# Altium integrated library NXP Semiconductors Automotive MOSFETs.IntLib: 540 symbols (part 13 of 16)
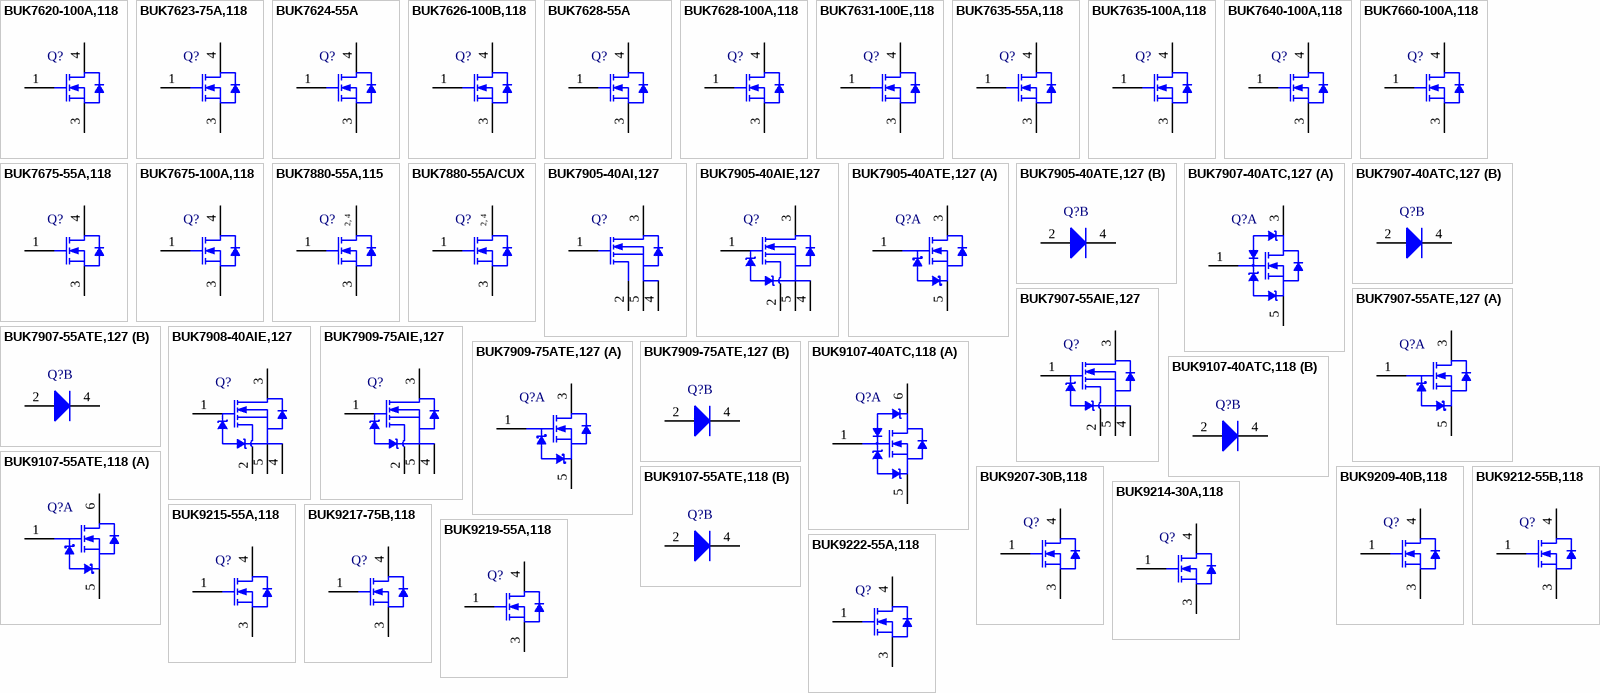
[diagram p26: symbols BUK7620-100A,118 to BUK9222-55A,118]

## BUK9215-55A,118
designator Q?
N-Channel TrenchMOS Logic Level FET, 55 V, 3-Pin SOT428, Tape and Reel; Manufacturer: NXP Semiconductors; PartNumber: BUK9215-55A,118; Automotive Qualified: Y; Channel Type: N; IDM [max] (A): 248; Packing: Tape & Reel; Qr [typ] (nC): 102; VDS [max] (V): 55; VGSth [typ] (V): 1.5; PackageVersion: 14-06-10, 06/2014; PackageReference: SOT428; PackageDescription: 3-Pin Plastic Single-ended Surface Mounted Package, Body 6.1 x 6.6 mm, Pitch 2.285 mm; Supplier 1: Digi-Key; Supplier Part Number 1: 568-9664-2-ND; Supplier 2: Digi-Key; Supplier Part Number 2: 568-9664-1-ND; Supplier 3: Digi-Key; Supplier Part Number 3: 568-9664-6-ND; Supplier 4: Mouser; Supplier Part Number 4: 771-BUK9215-55A118; Mounting Technology: Surface Mount; Code_JEITA: SC-63; Code_JEDEC: TO-252; ComponentLink1Description: Manufacturer URL; ComponentLink1URL: http://www.nxp.com/; ComponentLink2Description: Datasheet; ComponentLink2URL: http://www.nxp.com/documents/data_sheet/BUK9215-55A.pdf; ComponentLink3Description: Package Specification; ComponentLink3URL: http://www.nxp.com/documents/outline_drawing/sot428_po.pdf
footprint NXP-SOT428_N (DPAK, 3-Leads, Body 6.75x6.22mm, Pitch 2.29mm, IPC Medium Density)
footprint NXP-SOT428_L (DPAK, 3-Leads, Body 6.75x6.22mm, Pitch 2.29mm, IPC High Density)
footprint NXP-SOT428_M (DPAK, 3-Leads, Body 6.75x6.22mm, Pitch 2.29mm, IPC Low Density)
pins: 1 G "gate", 3 S "source", 4 D "mounting base; connected to drain"

## BUK9217-75B,118
designator Q?
N-Channel TrenchMOS Logic Level FET, 75 V, 64 A, 3-Pin SOT428, Tape and Reel; Manufacturer: NXP Semiconductors; PartNumber: BUK9217-75B,118; Automotive Qualified: Y; Channel Type: N; ID [max] (A): 64; IDM [max] (A): 256; Packing: Tape & Reel; Qr [typ] (nC): 138; VDS [max] (V): 75; VGSth [typ] (V): 1.5; DatasheetVersion: Rev. 02; PackageVersion: 14-06-10, 06/2014; PackageReference: SOT428; PackageDescription: 3-Pin Plastic Single-ended Surface Mounted Package, Body 6.1 x 6.6 mm, Pitch 2.285 mm; Supplier 1: Digi-Key; Supplier Part Number 1: 568-5857-2-ND; Supplier 2: Digi-Key; Supplier Part Number 2: 568-5857-1-ND; Supplier 3: Digi-Key; Supplier Part Number 3: 568-5857-6-ND; Supplier 4: Mouser; Supplier Part Number 4: 771-BUK9217-75B118; Mounting Technology: Surface Mount; Code_JEITA: SC-63; Code_JEDEC: TO-252; ComponentLink1Description: Manufacturer URL; ComponentLink1URL: http://www.nxp.com/; ComponentLink2Description: Datasheet; ComponentLink2URL: http://www.nxp.com/documents/data_sheet/BUK9217-75B.pdf; ComponentLink3Description: Package Specification; ComponentLink3URL: http://www.nxp.com/documents/outline_drawing/sot428_po.pdf
footprint NXP-SOT428_N (DPAK, 3-Leads, Body 6.75x6.22mm, Pitch 2.29mm, IPC Medium Density)
footprint NXP-SOT428_L (DPAK, 3-Leads, Body 6.75x6.22mm, Pitch 2.29mm, IPC High Density)
footprint NXP-SOT428_M (DPAK, 3-Leads, Body 6.75x6.22mm, Pitch 2.29mm, IPC Low Density)
pins: 1 G "gate", 3 S "source", 4 D "mounting base; connected to drain"

## BUK9219-55A,118
designator Q?
N-Channel TrenchMOS Logic Level FET, 55 V, 55 A, 3-Pin SOT428, Tape and Reel; Manufacturer: NXP Semiconductors; PartNumber: BUK9219-55A,118; Automotive Qualified: Y; Channel Type: N; ID [max] (A): 55; IDM [max] (A): 219; Packing: Tape & Reel; Qr [typ] (nC): 102; VGSth [typ] (V): 1.5; DatasheetVersion: Rev. 02; PackageVersion: 14-06-10, 06/2014; PackageReference: SOT428; PackageDescription: 3-Pin Plastic Single-ended Surface Mounted Package, Body 6.1 x 6.6 mm, Pitch 2.285 mm; Supplier 1: Digi-Key; Supplier Part Number 1: 568-9665-2-ND; Supplier 2: Digi-Key; Supplier Part Number 2: 568-9665-1-ND; Supplier 3: Digi-Key; Supplier Part Number 3: 568-9665-6-ND; Supplier 4: Mouser; Supplier Part Number 4: 771-BUK9219-55A118; VDS [max] (V): 55; Mounting Technology: Surface Mount; Code_JEITA: SC-63; Code_JEDEC: TO-252; ComponentLink1Description: Manufacturer URL; ComponentLink1URL: http://www.nxp.com/; ComponentLink2Description: Datasheet; ComponentLink2URL: http://www.nxp.com/documents/data_sheet/BUK9219-55A.pdf; ComponentLink3Description: Package Specification; ComponentLink3URL: http://www.nxp.com/documents/outline_drawing/sot428_po.pdf
footprint NXP-SOT428_N (DPAK, 3-Leads, Body 6.75x6.22mm, Pitch 2.29mm, IPC Medium Density)
footprint NXP-SOT428_L (DPAK, 3-Leads, Body 6.75x6.22mm, Pitch 2.29mm, IPC High Density)
footprint NXP-SOT428_M (DPAK, 3-Leads, Body 6.75x6.22mm, Pitch 2.29mm, IPC Low Density)
pins: 1 G "gate", 3 S "source", 4 D "mounting base; connected to drain"

## BUK9222-55A,118
designator Q?
N-Channel TrenchMOS Logic Level FET, 55 V, 48 A, 3-Pin SOT428, Tape and Reel; Manufacturer: NXP Semiconductors; PartNumber: BUK9222-55A,118; Automotive Qualified: Y; Channel Type: N; ID [max] (A): 48; IDM [max] (A): 193; Packing: Tape & Reel; Qr [typ] (nC): 81; VDS [max] (V): 55; VGSth [typ] (V): 1.5; DatasheetVersion: Rev. 02; PackageVersion: 14-06-10, 06/2014; PackageReference: SOT428; PackageDescription: 3-Pin Plastic Single-ended Surface Mounted Package, Body 6.1 x 6.6 mm, Pitch 2.285 mm; Supplier 1: Digi-Key; Supplier Part Number 1: 568-9666-2-ND; Supplier 2: Digi-Key; Supplier Part Number 2: 568-9666-1-ND; Supplier 3: Digi-Key; Supplier Part Number 3: 568-9666-6-ND; Supplier 4: Mouser; Supplier Part Number 4: 771-BUK9222-55A118; Mounting Technology: Surface Mount; Code_JEITA: SC-63; Code_JEDEC: TO-252; ComponentLink1Description: Manufacturer URL; ComponentLink1URL: http://www.nxp.com/; ComponentLink2Description: Datasheet; ComponentLink2URL: http://www.nxp.com/documents/data_sheet/BUK9222-55A.pdf; ComponentLink3Description: Package Specification; ComponentLink3URL: http://www.nxp.com/documents/outline_drawing/sot428_po.pdf
footprint NXP-SOT428_N (DPAK, 3-Leads, Body 6.75x6.22mm, Pitch 2.29mm, IPC Medium Density)
footprint NXP-SOT428_L (DPAK, 3-Leads, Body 6.75x6.22mm, Pitch 2.29mm, IPC High Density)
footprint NXP-SOT428_M (DPAK, 3-Leads, Body 6.75x6.22mm, Pitch 2.29mm, IPC Low Density)
pins: 1 G "gate", 3 S "source", 4 D "mounting base; connected to drain"

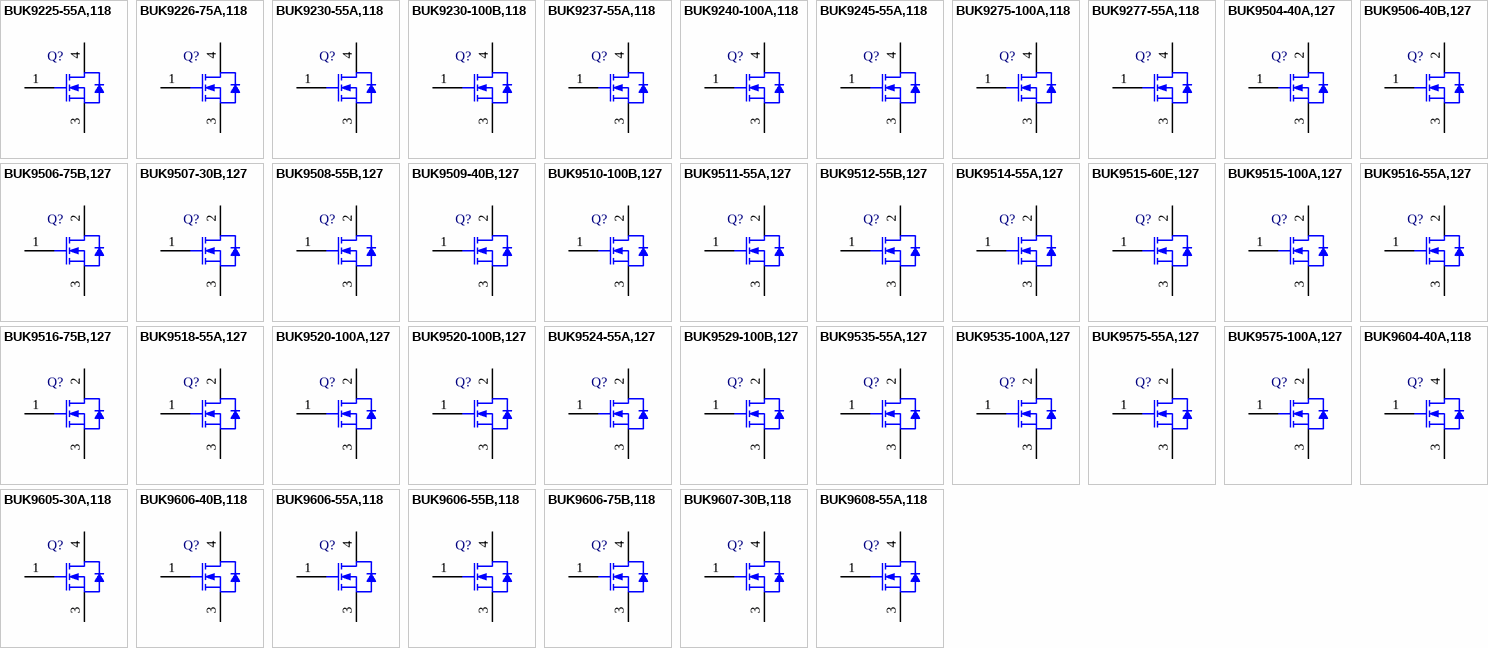
[diagram p12: symbols BUK9225-55A,118 to BUK9608-55A,118]

## BUK9225-55A,118
designator Q?
N-Channel TrenchMOS Logic Level FET, 55 V, 43 A, 3-Pin SOT428, Tape and Reel; Manufacturer: NXP Semiconductors; PartNumber: BUK9225-55A,118; Automotive Qualified: Y; Channel Type: N; ID [max] (A): 43; IDM [max] (A): 173; Packing: Tape & Reel; Qr [typ] (nC): 85; VDS [max] (V): 55; VGSth [typ] (V): 1.5; DatasheetVersion: Rev. 02; PackageVersion: 14-06-10, 06/2014; PackageReference: SOT428; PackageDescription: 3-Pin Plastic Single-ended Surface Mounted Package, Body 6.1 x 6.6 mm, Pitch 2.285 mm; Supplier 1: Digi-Key; Supplier Part Number 1: 568-9667-2-ND; Supplier 2: Digi-Key; Supplier Part Number 2: 568-9667-1-ND; Supplier 3: Digi-Key; Supplier Part Number 3: 568-9667-6-ND; Supplier 4: Mouser; Supplier Part Number 4: 771-BUK9225-55A118; Mounting Technology: Surface Mount; Code_JEITA: SC-63; Code_JEDEC: TO-252; ComponentLink1Description: Manufacturer URL; ComponentLink1URL: http://www.nxp.com/; ComponentLink2Description: Datasheet; ComponentLink2URL: http://www.nxp.com/documents/data_sheet/BUK9225-55A.pdf; ComponentLink3Description: Package Specification; ComponentLink3URL: http://www.nxp.com/documents/outline_drawing/sot428_po.pdf
footprint NXP-SOT428_N (DPAK, 3-Leads, Body 6.75x6.22mm, Pitch 2.29mm, IPC Medium Density)
footprint NXP-SOT428_L (DPAK, 3-Leads, Body 6.75x6.22mm, Pitch 2.29mm, IPC High Density)
footprint NXP-SOT428_M (DPAK, 3-Leads, Body 6.75x6.22mm, Pitch 2.29mm, IPC Low Density)
pins: 1 G "gate", 3 S "source", 4 D "mounting base; connected to drain"

## BUK9226-75A,118
designator Q?
N-Channel TrenchMOS Logic Level FET, 75 V, 45 A, 3-Pin SOT428, Tape and Reel; Manufacturer: NXP Semiconductors; PartNumber: BUK9226-75A,118; Automotive Qualified: Y; Channel Type: N; ID [max] (A): 45; IDM [max] (A): 182; Packing: Tape & Reel; Qr [typ] (nC): 115; VDS [max] (V): 75; VGSth [typ] (V): 1.5; DatasheetVersion: Rev. 02; PackageVersion: 14-06-10, 06/2014; PackageReference: SOT428; PackageDescription: 3-Pin Plastic Single-ended Surface Mounted Package, Body 6.1 x 6.6 mm, Pitch 2.285 mm; Supplier 1: Digi-Key; Supplier Part Number 1: 568-9668-2-ND; Supplier 2: Digi-Key; Supplier Part Number 2: 568-9668-1-ND; Supplier 3: Digi-Key; Supplier Part Number 3: 568-9668-6-ND; Supplier 4: Farnell; Supplier Part Number 4: 1776595; Supplier 5: Newark; Supplier Part Number 5: 79R1858; Supplier 6: Mouser; Supplier Part Number 6: 771-BUK9226-75A118; Mounting Technology: Surface Mount; Code_JEITA: SC-63; Code_JEDEC: TO-252; ComponentLink1Description: Manufacturer URL; ComponentLink1URL: http://www.nxp.com/; ComponentLink2Description: Datasheet; ComponentLink2URL: http://www.nxp.com/documents/data_sheet/BUK9226-75A.pdf; ComponentLink3Description: Package Specification; ComponentLink3URL: http://www.nxp.com/documents/outline_drawing/sot428_po.pdf
footprint NXP-SOT428_N (DPAK, 3-Leads, Body 6.75x6.22mm, Pitch 2.29mm, IPC Medium Density)
footprint NXP-SOT428_L (DPAK, 3-Leads, Body 6.75x6.22mm, Pitch 2.29mm, IPC High Density)
footprint NXP-SOT428_M (DPAK, 3-Leads, Body 6.75x6.22mm, Pitch 2.29mm, IPC Low Density)
pins: 1 G "gate", 3 S "source", 4 D "mounting base; connected to drain"

## BUK9230-55A,118
designator Q?
N-Channel TrenchMOS Logic Level FET, 55 V, 38 A, 3-Pin SOT428, Tape and Reel; Manufacturer: NXP Semiconductors; PartNumber: BUK9230-55A,118; Automotive Qualified: Y; Channel Type: N; ID [max] (A): 38; IDM [max] (A): 154; Packing: Tape & Reel; Qr [typ] (nC): 70; VDS [max] (V): 55; VGSth [typ] (V): 1.5; DatasheetVersion: Rev. 04; PackageVersion: 14-06-10, 06/2014; PackageReference: SOT428; PackageDescription: 3-Pin Plastic Single-ended Surface Mounted Package, Body 6.1 x 6.6 mm, Pitch 2.285 mm; Supplier 1: Digi-Key; Supplier Part Number 1: BUK9230-55A,118-ND; Supplier 2: Mouser; Supplier Part Number 2: 771-BUK9230-55A118; Mounting Technology: Surface Mount; Code_JEITA: SC-63; Code_JEDEC: TO-252; ComponentLink1Description: Manufacturer URL; ComponentLink1URL: http://www.nxp.com/; ComponentLink2Description: Datasheet; ComponentLink2URL: http://www.nxp.com/documents/data_sheet/BUK9230-55A.pdf; ComponentLink3Description: Package Specification; ComponentLink3URL: http://www.nxp.com/documents/outline_drawing/sot428_po.pdf
footprint NXP-SOT428_N (DPAK, 3-Leads, Body 6.75x6.22mm, Pitch 2.29mm, IPC Medium Density)
footprint NXP-SOT428_L (DPAK, 3-Leads, Body 6.75x6.22mm, Pitch 2.29mm, IPC High Density)
footprint NXP-SOT428_M (DPAK, 3-Leads, Body 6.75x6.22mm, Pitch 2.29mm, IPC Low Density)
pins: 1 G "gate", 3 S "source", 4 D "mounting base; connected to drain"

## BUK9230-100B,118
designator Q?
N-Channel TrenchMOS Logic Level FET, 100 V, 47 A, 3-Pin SOT428, Tape and Reel; Manufacturer: NXP Semiconductors; PartNumber: BUK9230-100B,118; Automotive Qualified: Y; Channel Type: N; ID [max] (A): 47; IDM [max] (A): 185; Packing: Tape & Reel; Qr [typ] (nC): 196; VDS [max] (V): 100; VGSth [typ] (V): 1.5; DatasheetVersion: Rev. 02; PackageVersion: 14-06-10, 06/2014; PackageReference: SOT428; PackageDescription: 3-Pin Plastic Single-ended Surface Mounted Package, Body 6.1 x 6.6 mm, Pitch 2.285 mm; Supplier 1: Digi-Key; Supplier Part Number 1: 568-5858-2-ND; Supplier 2: Digi-Key; Supplier Part Number 2: 568-5858-1-ND; Supplier 3: Digi-Key; Supplier Part Number 3: 568-5858-6-ND; Supplier 4: Newark; Supplier Part Number 4: 70R3542; Supplier 5: Newark; Supplier Part Number 5: 85W3336; Supplier 6: Mouser; Supplier Part Number 6: 771-BUK9230-100B118; Mounting Technology: Surface Mount; Code_JEITA: SC-63; Code_JEDEC: TO-252; ComponentLink1Description: Manufacturer URL; ComponentLink1URL: http://www.nxp.com/; ComponentLink2Description: Datasheet; ComponentLink2URL: http://www.nxp.com/documents/data_sheet/BUK9230-100B.pdf; ComponentLink3Description: Package Specification; ComponentLink3URL: http://www.nxp.com/documents/outline_drawing/sot428_po.pdf
footprint NXP-SOT428_N (DPAK, 3-Leads, Body 6.75x6.22mm, Pitch 2.29mm, IPC Medium Density)
footprint NXP-SOT428_L (DPAK, 3-Leads, Body 6.75x6.22mm, Pitch 2.29mm, IPC High Density)
footprint NXP-SOT428_M (DPAK, 3-Leads, Body 6.75x6.22mm, Pitch 2.29mm, IPC Low Density)
pins: 1 G "gate", 3 S "source", 4 D "mounting base; connected to drain"

## BUK9237-55A,118
designator Q?
N-Channel TrenchMOS Logic Level FET, 55 V, 32 A, 3-Pin SOT428, Tape and Reel; Manufacturer: NXP Semiconductors; PartNumber: BUK9237-55A,118; Automotive Qualified: Y; Channel Type: N; ID [max] (A): 32; IDM [max] (A): 129; Packing: Tape & Reel; Qr [typ] (nC): 83; VDS [max] (V): 55; VGSth [typ] (V): 1.5; DatasheetVersion: Rev. 3; PackageVersion: 14-06-10, 06/2014; PackageReference: SOT428; PackageDescription: 3-Pin Plastic Single-ended Surface Mounted Package, Body 6.1 x 6.6 mm, Pitch 2.285 mm; Supplier 1: Digi-Key; Supplier Part Number 1: 568-9669-2-ND; Supplier 2: Digi-Key; Supplier Part Number 2: 568-9669-1-ND; Supplier 3: Digi-Key; Supplier Part Number 3: 568-9669-6-ND; Supplier 4: Mouser; Supplier Part Number 4: 771-BUK9237-55A118; Mounting Technology: Surface Mount; Code_JEITA: SC-63; Code_JEDEC: TO-252; ComponentLink1Description: Manufacturer URL; ComponentLink1URL: http://www.nxp.com/; ComponentLink2Description: Datasheet; ComponentLink2URL: http://www.nxp.com/documents/data_sheet/BUK9237-55A.pdf; ComponentLink3Description: Package Specification; ComponentLink3URL: http://www.nxp.com/documents/outline_drawing/sot428_po.pdf
footprint NXP-SOT428_N (DPAK, 3-Leads, Body 6.75x6.22mm, Pitch 2.29mm, IPC Medium Density)
footprint NXP-SOT428_L (DPAK, 3-Leads, Body 6.75x6.22mm, Pitch 2.29mm, IPC High Density)
footprint NXP-SOT428_M (DPAK, 3-Leads, Body 6.75x6.22mm, Pitch 2.29mm, IPC Low Density)
pins: 1 G "gate", 3 S "source", 4 D "mounting base; connected to drain"

## BUK9240-100A,118
designator Q?
N-Channel TrenchMOS Logic Level FET, 100 V, 33 A, 3-Pin SOT428, Tape and Reel; Manufacturer: NXP Semiconductors; PartNumber: BUK9240-100A,118; Automotive Qualified: Y; Channel Type: N; ID [max] (A): 33; IDM [max] (A): 135; Packing: Tape & Reel; Qr [typ] (nC): 240; VDS [max] (V): 100; VGSth [typ] (V): 1.5; DatasheetVersion: Rev. 02; PackageVersion: 14-06-10, 06/2014; PackageReference: SOT428; PackageDescription: 3-Pin Plastic Single-ended Surface Mounted Package, Body 6.1 x 6.6 mm, Pitch 2.285 mm; Supplier 1: Digi-Key; Supplier Part Number 1: 568-9670-2-ND; Supplier 2: Digi-Key; Supplier Part Number 2: 568-9670-1-ND; Supplier 3: Digi-Key; Supplier Part Number 3: 568-9670-6-ND; Supplier 4: Newark; Supplier Part Number 4: 75R4722; Supplier 5: Mouser; Supplier Part Number 5: 771-BUK9240-100A/T3; Mounting Technology: Surface Mount; Code_JEITA: SC-63; Code_JEDEC: TO-252; ComponentLink1Description: Manufacturer URL; ComponentLink1URL: http://www.nxp.com/; ComponentLink2Description: Datasheet; ComponentLink2URL: http://www.nxp.com/documents/data_sheet/BUK9240-100A.pdf; ComponentLink3Description: Package Specification; ComponentLink3URL: http://www.nxp.com/documents/outline_drawing/sot428_po.pdf
footprint NXP-SOT428_N (DPAK, 3-Leads, Body 6.75x6.22mm, Pitch 2.29mm, IPC Medium Density)
footprint NXP-SOT428_L (DPAK, 3-Leads, Body 6.75x6.22mm, Pitch 2.29mm, IPC High Density)
footprint NXP-SOT428_M (DPAK, 3-Leads, Body 6.75x6.22mm, Pitch 2.29mm, IPC Low Density)
pins: 1 G "gate", 3 S "source", 4 D "mounting base; connected to drain"

## BUK9245-55A,118
designator Q?
N-Channel TrenchMOS Logic Level FET, 55 V, 28 A, 3-Pin SOT428, Tape and Reel; Manufacturer: NXP Semiconductors; PartNumber: BUK9245-55A,118; Automotive Qualified: Y; Channel Type: N; ID [max] (A): 28; IDM [max] (A): 112; Packing: Tape & Reel; Qr [typ] (nC): 53; VDS [max] (V): 55; VGSth [typ] (V): 1.5; DatasheetVersion: Rev. 02; PackageVersion: 14-06-10, 06/2014; PackageReference: SOT428; PackageDescription: 3-Pin Plastic Single-ended Surface Mounted Package, Body 6.1 x 6.6 mm, Pitch 2.285 mm; Supplier 1: Digi-Key; Supplier Part Number 1: 568-9671-2-ND; Supplier 2: Digi-Key; Supplier Part Number 2: 568-9671-1-ND; Supplier 3: Digi-Key; Supplier Part Number 3: 568-9671-6-ND; Supplier 4: Mouser; Supplier Part Number 4: 771-BUK9245-55A118; Mounting Technology: Surface Mount; Code_JEITA: SC-63; Code_JEDEC: TO-252; ComponentLink1Description: Manufacturer URL; ComponentLink1URL: http://www.nxp.com/; ComponentLink2Description: Datasheet; ComponentLink2URL: http://www.nxp.com/documents/data_sheet/BUK9245-55A.pdf; ComponentLink3Description: Package Specification; ComponentLink3URL: http://www.nxp.com/documents/outline_drawing/sot428_po.pdf
footprint NXP-SOT428_N (DPAK, 3-Leads, Body 6.75x6.22mm, Pitch 2.29mm, IPC Medium Density)
footprint NXP-SOT428_L (DPAK, 3-Leads, Body 6.75x6.22mm, Pitch 2.29mm, IPC High Density)
footprint NXP-SOT428_M (DPAK, 3-Leads, Body 6.75x6.22mm, Pitch 2.29mm, IPC Low Density)
pins: 1 G "gate", 3 S "source", 4 D "mounting base; connected to drain"

## BUK9275-100A,118
designator Q?
N-Channel TrenchMOS Logic Level FET, 100 V, 21.7 A, 3-Pin SOT428, Tape and Reel; Manufacturer: NXP Semiconductors; PartNumber: BUK9275-100A,118; Automotive Qualified: Y; Channel Type: N; ID [max] (A): 21.7; IDM [max] (A): 87; Packing: Tape & Reel; Qr [typ] (nC): 220; VDS [max] (V): 100; VGSth [typ] (V): 1.5; DatasheetVersion: Rev. 03; PackageVersion: 14-06-10, 06/2014; PackageReference: SOT428; PackageDescription: 3-Pin Plastic Single-ended Surface Mounted Package, Body 6.1 x 6.6 mm, Pitch 2.285 mm; Supplier 1: Digi-Key; Supplier Part Number 1: 568-9672-2-ND; Supplier 2: Digi-Key; Supplier Part Number 2: 568-9672-1-ND; Supplier 3: Digi-Key; Supplier Part Number 3: 568-9672-6-ND; Supplier 4: Mouser; Supplier Part Number 4: 771-BUK9275-100A118; Mounting Technology: Surface Mount; Code_JEITA: SC-63; Code_JEDEC: TO-252; ComponentLink1Description: Manufacturer URL; ComponentLink1URL: http://www.nxp.com/; ComponentLink2Description: Datasheet; ComponentLink2URL: http://www.nxp.com/documents/data_sheet/BUK9275-100A.pdf; ComponentLink3Description: Package Specification; ComponentLink3URL: http://www.nxp.com/documents/outline_drawing/sot428_po.pdf
footprint NXP-SOT428_N (DPAK, 3-Leads, Body 6.75x6.22mm, Pitch 2.29mm, IPC Medium Density)
footprint NXP-SOT428_L (DPAK, 3-Leads, Body 6.75x6.22mm, Pitch 2.29mm, IPC High Density)
footprint NXP-SOT428_M (DPAK, 3-Leads, Body 6.75x6.22mm, Pitch 2.29mm, IPC Low Density)
pins: 1 G "gate", 3 S "source", 4 D "mounting base; connected to drain"

## BUK9277-55A,118
designator Q?
N-Channel TrenchMOS Logic Level FET, 55 V, 18 A, 3-Pin SOT428, Tape and Reel; Manufacturer: NXP Semiconductors; PartNumber: BUK9277-55A,118; Automotive Qualified: Y; Channel Type: N; ID [max] (A): 18; IDM [max] (A): 73; Packing: Tape & Reel; Qr [typ] (nC): 60; VDS [max] (V): 55; VGSth [typ] (V): 1.5; PackageVersion: 14-06-10, 06/2014; PackageReference: SOT428; PackageDescription: 3-Pin Plastic Single-ended Surface Mounted Package, Body 6.1 x 6.6 mm, Pitch 2.285 mm; Supplier 1: Digi-Key; Supplier Part Number 1: 568-4284-2-ND; Supplier 2: Digi-Key; Supplier Part Number 2: 568-4284-1-ND; Supplier 3: Digi-Key; Supplier Part Number 3: 568-4284-6-ND; Supplier 4: Newark; Supplier Part Number 4: 75R4723; Supplier 5: Mouser; Supplier Part Number 5: 771-BUK9277-55A/T3; Mounting Technology: Surface Mount; Code_JEITA: SC-63; Code_JEDEC: TO-252; ComponentLink1Description: Manufacturer URL; ComponentLink1URL: http://www.nxp.com/; ComponentLink2Description: Datasheet; ComponentLink2URL: http://www.nxp.com/documents/data_sheet/BUK9277-55A.pdf; ComponentLink3Description: Package Specification; ComponentLink3URL: http://www.nxp.com/documents/outline_drawing/sot428_po.pdf
footprint NXP-SOT428_N (DPAK, 3-Leads, Body 6.75x6.22mm, Pitch 2.29mm, IPC Medium Density)
footprint NXP-SOT428_L (DPAK, 3-Leads, Body 6.75x6.22mm, Pitch 2.29mm, IPC High Density)
footprint NXP-SOT428_M (DPAK, 3-Leads, Body 6.75x6.22mm, Pitch 2.29mm, IPC Low Density)
pins: 1 G "gate", 3 S "source", 4 D "mounting base; connected to drain"

## BUK9504-40A,127
designator Q?
N-Channel TrenchMOS Logic Level FET, 40 V, 3-Pin SOT78A, Rail; Manufacturer: NXP Semiconductors; PartNumber: BUK9504-40A,127; Automotive Qualified: Y; Channel Type: N; IDM [max] (A): 794; Qr [typ] (nC): 531; VDS [max] (V): 40; VGSth [typ] (V): 1.5; DatasheetVersion: Rev. 2; PackageVersion: 05-03-14, 03/2005; PackageReference: SOT78A; PackageDescription: 3-Pin Flange Mount, Vertical Straight Lead, Body 10 x 4.3 mm, Pitch 2.54 mm; Supplier 1: Digi-Key; Supplier Part Number 1: 568-9746-5-ND; Supplier 2: Mouser; Supplier Part Number 2: 771-BUK9504-40A127; Packing: Rail; Mounting Technology: Through Hole; Code_JEITA: SC-46; Code_JEDEC: 3-lead TO-220AB; ComponentLink1Description: Manufacturer URL; ComponentLink1URL: http://www.nxp.com/; ComponentLink2Description: Datasheet; ComponentLink2URL: http://www.nxp.com/documents/data_sheet/BUK9504-40A.pdf; ComponentLink3Description: Package Specification; ComponentLink3URL: http://www.nxp.com/documents/outline_drawing/sot078a_po.pdf
footprint NXP-SOT78A (FM, 3-Leads, Body 10.3x4.5mm, Pitch 2.54mm)
pins: 1 G "gate", 2 D "drain", 3 S "source"

## BUK9506-40B,127
designator Q?
N-Channel TrenchMOS Logic Level FET, 40 V, 3-Pin SOT78A, Rail; Manufacturer: NXP Semiconductors; PartNumber: BUK9506-40B,127; Automotive Qualified: Y; Channel Type: N; IDM [max] (A): 516; Qr [typ] (nC): 57; VDS [max] (V): 40; VGSth [typ] (V): 1.5; DatasheetVersion: Rev. 02; PackageVersion: 05-03-14, 03/2005; PackageReference: SOT78A; PackageDescription: 3-Pin Flange Mount, Vertical Straight Lead, Body 10 x 4.3 mm, Pitch 2.54 mm; Supplier 1: Digi-Key; Supplier Part Number 1: 568-5724-5-ND; Supplier 2: Mouser; Supplier Part Number 2: 771-BUK9506-40B127; Packing: Rail; Mounting Technology: Through Hole; Code_JEITA: SC-46; Code_JEDEC: 3-lead TO-220AB; ComponentLink1Description: Manufacturer URL; ComponentLink1URL: http://www.nxp.com/; ComponentLink2Description: Datasheet; ComponentLink2URL: http://www.nxp.com/documents/data_sheet/BUK9506-40B.pdf; ComponentLink3Description: Package Specification; ComponentLink3URL: http://www.nxp.com/documents/outline_drawing/sot078a_po.pdf
footprint NXP-SOT78A (FM, 3-Leads, Body 10.3x4.5mm, Pitch 2.54mm)
pins: 1 G "gate", 2 D "drain", 3 S "source"

## BUK9506-75B,127
designator Q?
N-Channel TrenchMOS Logic Level FET, 75 V, 3-Pin SOT78A, Rail; Manufacturer: NXP Semiconductors; PartNumber: BUK9506-75B,127; Automotive Qualified: Y; Channel Type: N; IDM [max] (A): 612; Qr [typ] (nC): 176; VDS [max] (V): 75; VGSth [typ] (V): 1.5; DatasheetVersion: Rev. 03; PackageVersion: 05-03-14, 03/2005; PackageReference: SOT78A; PackageDescription: 3-Pin Flange Mount, Vertical Straight Lead, Body 10 x 4.3 mm, Pitch 2.54 mm; Supplier 1: Digi-Key; Supplier Part Number 1: 568-6632-5-ND; Supplier 2: Mouser; Supplier Part Number 2: 771-BUK9506-75B127; Packing: Rail; Mounting Technology: Through Hole; Code_JEITA: SC-46; Code_JEDEC: 3-lead TO-220AB; ComponentLink1Description: Manufacturer URL; ComponentLink1URL: http://www.nxp.com/; ComponentLink2Description: Datasheet; ComponentLink2URL: http://www.nxp.com/documents/data_sheet/BUK9506-75B.pdf; ComponentLink3Description: Package Specification; ComponentLink3URL: http://www.nxp.com/documents/outline_drawing/sot078a_po.pdf
footprint NXP-SOT78A (FM, 3-Leads, Body 10.3x4.5mm, Pitch 2.54mm)
pins: 1 G "gate", 2 D "drain", 3 S "source"

## BUK9507-30B,127
designator Q?
N-Channel TrenchMOS Logic Level FET, 30 V, 3-Pin SOT78A, Rail; Manufacturer: NXP Semiconductors; PartNumber: BUK9507-30B,127; Automotive Qualified: Y; Channel Type: N; IDM [max] (A): 435; Qr [typ] (nC): 35; VDS [max] (V): 30; VGSth [typ] (V): 1.5; DatasheetVersion: Rev. 02; PackageVersion: 05-03-14, 03/2005; PackageReference: SOT78A; PackageDescription: 3-Pin Flange Mount, Vertical Straight Lead, Body 10 x 4.3 mm, Pitch 2.54 mm; Supplier 1: Digi-Key; Supplier Part Number 1: 568-5725-5-ND; Supplier 2: Mouser; Supplier Part Number 2: 771-BUK9507-30B127; Packing: Rail; Mounting Technology: Through Hole; Code_JEITA: SC-46; Code_JEDEC: 3-lead TO-220AB; ComponentLink1Description: Manufacturer URL; ComponentLink1URL: http://www.nxp.com/; ComponentLink2Description: Datasheet; ComponentLink2URL: http://www.nxp.com/documents/data_sheet/BUK9507-30B.pdf; ComponentLink3Description: Package Specification; ComponentLink3URL: http://www.nxp.com/documents/outline_drawing/sot078a_po.pdf
footprint NXP-SOT78A (FM, 3-Leads, Body 10.3x4.5mm, Pitch 2.54mm)
pins: 1 G "gate", 2 D "drain", 3 S "source"

## BUK9508-55B,127
designator Q?
N-Channel TrenchMOS Logic Level FET, 55 V, 3-Pin SOT78, Rail; Manufacturer: NXP Semiconductors; PartNumber: BUK9508-55B,127; Automotive Qualified: Y; Channel Type: N; IDM [max] (A): 439; Qr [typ] (nC): 72; VDS [max] (V): 55; VGSth [typ] (V): 1.5; DatasheetVersion: Rev. 03; PackageVersion: 08-06-13, 06/2008; PackageReference: SOT78; PackageDescription: 3-Pin Flange Mount, Vertical Straight Lead, Body 10 x 4.4 mm, Pitch 2.54 mm; Supplier 1: Digi-Key; Supplier Part Number 1: 568-5726-5-ND; Supplier 2: Newark; Supplier Part Number 2: 70R3557; Supplier 3: Mouser; Supplier Part Number 3: 771-BUK9508-55B127; Packing: Rail; Mounting Technology: Through Hole; Code_JEITA: SC-46; Code_JEDEC: 3-lead TO-220AB; ComponentLink1Description: Manufacturer URL; ComponentLink1URL: http://www.nxp.com/; ComponentLink2Description: Datasheet; ComponentLink2URL: http://www.nxp.com/documents/data_sheet/BUK9508-55B.pdf; ComponentLink3Description: Package Specification; ComponentLink3URL: http://www.nxp.com/documents/outline_drawing/sot078_po.pdf
footprint NXP-SOT78 (FM, 3-Leads, Body 10.3x4.7mm, Pitch 2.54mm)
pins: 1 G "gate", 2 D "drain", 3 S "source"

## BUK9509-40B,127
designator Q?
N-Channel TrenchMOS Logic Level FET, 40 V, 3-Pin SOT78, Rail; Manufacturer: NXP Semiconductors; PartNumber: BUK9509-40B,127; Automotive Qualified: Y; Channel Type: N; IDM [max] (A): 383; Qr [typ] (nC): 47; VDS [max] (V): 40; VGSth [typ] (V): 1.5; DatasheetVersion: Rev. 02; PackageVersion: 08-06-13, 06/2008; PackageReference: SOT78; PackageDescription: 3-Pin Flange Mount, Vertical Straight Lead, Body 10 x 4.4 mm, Pitch 2.54 mm; Supplier 1: Digi-Key; Supplier Part Number 1: 568-5727-5-ND; Supplier 2: Mouser; Supplier Part Number 2: 771-BUK9509-40B127; Packing: Rail; Mounting Technology: Through Hole; Code_JEITA: SC-46; Code_JEDEC: 3-lead TO-220AB; ComponentLink1Description: Manufacturer URL; ComponentLink1URL: http://www.nxp.com/; ComponentLink2Description: Datasheet; ComponentLink2URL: http://www.nxp.com/documents/data_sheet/BUK9509-40B.pdf; ComponentLink3Description: Package Specification; ComponentLink3URL: http://www.nxp.com/documents/outline_drawing/sot078_po.pdf
footprint NXP-SOT78 (FM, 3-Leads, Body 10.3x4.7mm, Pitch 2.54mm)
pins: 1 G "gate", 2 D "drain", 3 S "source"

## BUK9510-100B,127
designator Q?
N-Channel TrenchMOS Logic Level FET, 100 V, 3-Pin SOT78A, Rail; Manufacturer: NXP Semiconductors; PartNumber: BUK9510-100B,127; Automotive Qualified: Y; Channel Type: N; IDM [max] (A): 438; Qr [typ] (nC): 268; VDS [max] (V): 100; VGSth [typ] (V): 1.5; DatasheetVersion: Rev. 3; PackageVersion: 05-03-14, 03/2005; PackageReference: SOT78A; PackageDescription: 3-Pin Flange Mount, Vertical Straight Lead, Body 10 x 4.3 mm, Pitch 2.54 mm; Supplier 1: Digi-Key; Supplier Part Number 1: 568-5728-5-ND; Supplier 2: Mouser; Supplier Part Number 2: 771-BUK9510-100B127; Packing: Rail; Mounting Technology: Through Hole; Code_JEITA: SC-46; Code_JEDEC: 3-lead TO-220AB; ComponentLink1Description: Manufacturer URL; ComponentLink1URL: http://www.nxp.com/; ComponentLink2Description: Datasheet; ComponentLink2URL: http://www.nxp.com/documents/data_sheet/BUK9510-100B.pdf; ComponentLink3Description: Package Specification; ComponentLink3URL: http://www.nxp.com/documents/outline_drawing/sot078a_po.pdf
footprint NXP-SOT78A (FM, 3-Leads, Body 10.3x4.5mm, Pitch 2.54mm)
pins: 1 G "gate", 2 D "drain", 3 S "source"

## BUK9511-55A,127
designator Q?
N-Channel TrenchMOS Logic Level FET, 55 V, 75 A, 3-Pin SOT78A, Rail; Manufacturer: NXP Semiconductors; PartNumber: BUK9511-55A,127; Automotive Qualified: Y; Channel Type: N; ID [max] (A): 75; IDM [max] (A): 266; Qr [typ] (nC): 230; VDS [max] (V): 55; VGSth [typ] (V): 1.5; DatasheetVersion: Rev. 2; PackageVersion: 05-03-14, 03/2005; PackageReference: SOT78A; PackageDescription: 3-Pin Flange Mount, Vertical Straight Lead, Body 10 x 4.3 mm, Pitch 2.54 mm; Supplier 1: Digi-Key; Supplier Part Number 1: 568-9733-5-ND; Supplier 2: Mouser; Supplier Part Number 2: 771-BUK9511-55A127; Packing: Rail; Mounting Technology: Through Hole; Code_JEITA: SC-46; Code_JEDEC: 3-lead TO-220AB; ComponentLink1Description: Manufacturer URL; ComponentLink1URL: http://www.nxp.com/; ComponentLink2Description: Datasheet; ComponentLink2URL: http://www.nxp.com/documents/data_sheet/BUK9511-55A.pdf; ComponentLink3Description: Package Specification; ComponentLink3URL: http://www.nxp.com/documents/outline_drawing/sot078a_po.pdf
footprint NXP-SOT78A (FM, 3-Leads, Body 10.3x4.5mm, Pitch 2.54mm)
pins: 1 G "gate", 2 D "drain", 3 S "source"

## BUK9512-55B,127
designator Q?
N-Channel TrenchMOS Logic Level FET, 55 V, 3-Pin SOT78, Rail; Manufacturer: NXP Semiconductors; PartNumber: BUK9512-55B,127; Automotive Qualified: Y; Channel Type: N; IDM [max] (A): 322; Qr [typ] (nC): 53; VDS [max] (V): 55; VGSth [typ] (V): 1.5; DatasheetVersion: Rev. 02; PackageVersion: 08-06-13, 06/2008; PackageReference: SOT78; PackageDescription: 3-Pin Flange Mount, Vertical Straight Lead, Body 10 x 4.4 mm, Pitch 2.54 mm; Supplier 1: Digi-Key; Supplier Part Number 1: 568-5729-5-ND; Supplier 2: Mouser; Supplier Part Number 2: 771-BUK9512-55B127; Packing: Rail; Mounting Technology: Through Hole; Code_JEITA: SC-46; Code_JEDEC: 3-lead TO-220AB; ComponentLink1Description: Manufacturer URL; ComponentLink1URL: http://www.nxp.com/; ComponentLink2Description: Datasheet; ComponentLink2URL: http://www.nxp.com/documents/data_sheet/BUK9512-55B.pdf; ComponentLink3Description: Package Specification; ComponentLink3URL: http://www.nxp.com/documents/outline_drawing/sot078_po.pdf
footprint NXP-SOT78 (FM, 3-Leads, Body 10.3x4.7mm, Pitch 2.54mm)
pins: 1 G "gate", 2 D "drain", 3 S "source"

## BUK9514-55A,127
designator Q?
N-Channel TrenchMOS Logic Level FET, 55 V, 73 A, 3-Pin SOT78A, Rail; Manufacturer: NXP Semiconductors; PartNumber: BUK9514-55A,127; Automotive Qualified: Y; Channel Type: N; ID [max] (A): 73; IDM [max] (A): 266; Qr [typ] (nC): 121; VDS [max] (V): 55; VGSth [typ] (V): 1.5; DatasheetVersion: Rev. 02; PackageVersion: 05-03-14, 03/2005; PackageReference: SOT78A; PackageDescription: 3-Pin Flange Mount, Vertical Straight Lead, Body 10 x 4.3 mm, Pitch 2.54 mm; Supplier 1: Digi-Key; Supplier Part Number 1: 568-9734-5-ND; Supplier 2: Mouser; Supplier Part Number 2: 771-BUK9514-55A127; Packing: Rail; Mounting Technology: Through Hole; Code_JEITA: SC-46; Code_JEDEC: 3-lead TO-220AB; ComponentLink1Description: Manufacturer URL; ComponentLink1URL: http://www.nxp.com/; ComponentLink2Description: Datasheet; ComponentLink2URL: http://www.nxp.com/documents/data_sheet/BUK9514-55A.pdf; ComponentLink3Description: Package Specification; ComponentLink3URL: http://www.nxp.com/documents/outline_drawing/sot078a_po.pdf
footprint NXP-SOT78A (FM, 3-Leads, Body 10.3x4.5mm, Pitch 2.54mm)
pins: 1 G "gate", 2 D "drain", 3 S "source"

## BUK9515-60E,127
designator Q?
N-Channel TrenchMOS Logic Level FET, 60 V, 54 A, 3-Pin SOT78A, Rail; Manufacturer: NXP Semiconductors; PartNumber: BUK9515-60E,127; Automotive Qualified: Y; Channel Type: N; ID [max] (A): 54; IDM [max] (A): 216; Qr [typ] (nC): 20.9; VDS [max] (V): 60; VGSth [typ] (V): 1.7; PackageVersion: 05-03-14, 03/2005; PackageReference: SOT78A; PackageDescription: 3-Pin Flange Mount, Vertical Straight Lead, Body 10 x 4.3 mm, Pitch 2.54 mm; Supplier 1: Digi-Key; Supplier Part Number 1: 568-9858-5-ND; Supplier 2: Mouser; Supplier Part Number 2: 771-BUK9515-60E127; Packing: Rail; Mounting Technology: Through Hole; Code_JEITA: SC-46; Code_JEDEC: 3-lead TO-220AB; ComponentLink1Description: Manufacturer URL; ComponentLink1URL: http://www.nxp.com/; ComponentLink2Description: Datasheet; ComponentLink2URL: http://www.nxp.com/documents/data_sheet/BUK9515-60E.pdf; ComponentLink3Description: Package Specification; ComponentLink3URL: http://www.nxp.com/documents/outline_drawing/sot078a_po.pdf
footprint NXP-SOT78A (FM, 3-Leads, Body 10.3x4.5mm, Pitch 2.54mm)
pins: 1 G "gate", 2 D "drain", 3 S "source"

## BUK9515-100A,127
designator Q?
N-Channel TrenchMOS Logic Level FET, 100 V, 75 A, 3-Pin SOT78A, Rail; Manufacturer: NXP Semiconductors; PartNumber: BUK9515-100A,127; Automotive Qualified: Y; Channel Type: N; ID [max] (A): 75; IDM [max] (A): 313; Qr [typ] (nC): 240; VDS [max] (V): 100; VGSth [typ] (V): 1.5; DatasheetVersion: Rev. 3; PackageVersion: 05-03-14, 03/2005; PackageReference: SOT78A; PackageDescription: 3-Pin Flange Mount, Vertical Straight Lead, Body 10 x 4.3 mm, Pitch 2.54 mm; Supplier 1: Digi-Key; Supplier Part Number 1: BUK9515-100A,127-ND; Supplier 2: Mouser; Supplier Part Number 2: 771-BUK9515-100A127; Packing: Rail; Mounting Technology: Through Hole; Code_JEITA: SC-46; Code_JEDEC: 3-lead TO-220AB; ComponentLink1Description: Manufacturer URL; ComponentLink1URL: http://www.nxp.com/; ComponentLink2Description: Datasheet; ComponentLink2URL: http://www.nxp.com/documents/data_sheet/BUK9515-100A.pdf; ComponentLink3Description: Package Specification; ComponentLink3URL: http://www.nxp.com/documents/outline_drawing/sot078a_po.pdf
footprint NXP-SOT78A (FM, 3-Leads, Body 10.3x4.5mm, Pitch 2.54mm)
pins: 1 G "gate", 2 D "drain", 3 S "source"

## BUK9516-55A,127
designator Q?
N-Channel TrenchMOS Logic Level FET, 55 V, 66 A, 3-Pin SOT78A, Rail; Manufacturer: NXP Semiconductors; PartNumber: BUK9516-55A,127; Automotive Qualified: Y; Channel Type: N; ID [max] (A): 66; IDM [max] (A): 263; Qr [typ] (nC): 102; VDS [max] (V): 55; VGSth [typ] (V): 1.5; DatasheetVersion: Rev. 02; PackageVersion: 05-03-14, 03/2005; PackageReference: SOT78A; PackageDescription: 3-Pin Flange Mount, Vertical Straight Lead, Body 10 x 4.3 mm, Pitch 2.54 mm; Supplier 1: Digi-Key; Supplier Part Number 1: 568-9735-5-ND; Supplier 2: Mouser; Supplier Part Number 2: 771-BUK9516-55A127; Packing: Rail; Mounting Technology: Through Hole; Code_JEITA: SC-46; Code_JEDEC: 3-lead TO-220AB; ComponentLink1Description: Manufacturer URL; ComponentLink1URL: http://www.nxp.com/; ComponentLink2Description: Datasheet; ComponentLink2URL: http://www.nxp.com/documents/data_sheet/BUK9516-55A.pdf; ComponentLink3Description: Package Specification; ComponentLink3URL: http://www.nxp.com/documents/outline_drawing/sot078a_po.pdf
footprint NXP-SOT78A (FM, 3-Leads, Body 10.3x4.5mm, Pitch 2.54mm)
pins: 1 G "gate", 2 D "drain", 3 S "source"

## BUK9516-75B,127
designator Q?
N-Channel TrenchMOS Logic Level FET, 75 V, 67 A, 3-Pin SOT78A, Rail; Manufacturer: NXP Semiconductors; PartNumber: BUK9516-75B,127; Automotive Qualified: Y; Channel Type: N; ID [max] (A): 67; IDM [max] (A): 270; Qr [typ] (nC): 138; VDS [max] (V): 75; VGSth [typ] (V): 1.5; DatasheetVersion: Rev. 02; PackageVersion: 05-03-14, 03/2005; PackageReference: SOT78A; PackageDescription: 3-Pin Flange Mount, Vertical Straight Lead, Body 10 x 4.3 mm, Pitch 2.54 mm; Supplier 1: Digi-Key; Supplier Part Number 1: 568-5730-5-ND; Supplier 2: Mouser; Supplier Part Number 2: 771-BUK9516-75B127; Packing: Rail; Mounting Technology: Through Hole; Code_JEITA: SC-46; Code_JEDEC: 3-lead TO-220AB; ComponentLink1Description: Manufacturer URL; ComponentLink1URL: http://www.nxp.com/; ComponentLink2Description: Datasheet; ComponentLink2URL: http://www.nxp.com/documents/data_sheet/BUK9516-75B.pdf; ComponentLink3Description: Package Specification; ComponentLink3URL: http://www.nxp.com/documents/outline_drawing/sot078a_po.pdf
footprint NXP-SOT78A (FM, 3-Leads, Body 10.3x4.5mm, Pitch 2.54mm)
pins: 1 G "gate", 2 D "drain", 3 S "source"

## BUK9518-55A,127
designator Q?
N-Channel TrenchMOS Logic Level FET, 55 V, 61 A, 3-Pin SOT78A, Rail; Manufacturer: NXP Semiconductors; PartNumber: BUK9518-55A,127; Automotive Qualified: Y; Channel Type: N; ID [max] (A): 61; IDM [max] (A): 246; Qr [typ] (nC): 101; VDS [max] (V): 55; VGSth [typ] (V): 1.5; DatasheetVersion: Rev. 02; PackageVersion: 05-03-14, 03/2005; PackageReference: SOT78A; PackageDescription: 3-Pin Flange Mount, Vertical Straight Lead, Body 10 x 4.3 mm, Pitch 2.54 mm; Supplier 1: Digi-Key; Supplier Part Number 1: 568-9736-5-ND; Supplier 2: Mouser; Supplier Part Number 2: 771-BUK9518-55A127; Packing: Rail; Mounting Technology: Through Hole; Code_JEITA: SC-46; Code_JEDEC: 3-lead TO-220AB; ComponentLink1Description: Manufacturer URL; ComponentLink1URL: http://www.nxp.com/; ComponentLink2Description: Datasheet; ComponentLink2URL: http://www.nxp.com/documents/data_sheet/BUK9518-55A.pdf; ComponentLink3Description: Package Specification; ComponentLink3URL: http://www.nxp.com/documents/outline_drawing/sot078a_po.pdf
footprint NXP-SOT78A (FM, 3-Leads, Body 10.3x4.5mm, Pitch 2.54mm)
pins: 1 G "gate", 2 D "drain", 3 S "source"

## BUK9520-100A,127
designator Q?
N-Channel TrenchMOS Logic Level FET, 100 V, 63 A, 3-Pin SOT78A, Rail; Manufacturer: NXP Semiconductors; PartNumber: BUK9520-100A,127; Automotive Qualified: Y; Channel Type: N; ID [max] (A): 63; IDM [max] (A): 253; Qr [typ] (nC): 282; VDS [max] (V): 100; VGSth [typ] (V): 1.5; DatasheetVersion: Rev. 02; PackageVersion: 05-03-14, 03/2005; PackageReference: SOT78A; PackageDescription: 3-Pin Flange Mount, Vertical Straight Lead, Body 10 x 4.3 mm, Pitch 2.54 mm; Supplier 1: Digi-Key; Supplier Part Number 1: 568-9732-5-ND; Supplier 2: Mouser; Supplier Part Number 2: 771-BUK9520-100A127; Packing: Rail; Mounting Technology: Through Hole; Code_JEITA: SC-46; Code_JEDEC: 3-lead TO-220AB; ComponentLink1Description: Manufacturer URL; ComponentLink1URL: http://www.nxp.com/; ComponentLink2Description: Datasheet; ComponentLink2URL: http://www.nxp.com/documents/data_sheet/BUK9520-100A.pdf; ComponentLink3Description: Package Specification; ComponentLink3URL: http://www.nxp.com/documents/outline_drawing/sot078a_po.pdf
footprint NXP-SOT78A (FM, 3-Leads, Body 10.3x4.5mm, Pitch 2.54mm)
pins: 1 G "gate", 2 D "drain", 3 S "source"

## BUK9520-100B,127
designator Q?
N-Channel TrenchMOS Logic Level FET, 100 V, 63 A, 3-Pin SOT78A, Rail; Manufacturer: NXP Semiconductors; PartNumber: BUK9520-100B,127; Automotive Qualified: Y; Channel Type: N; ID [max] (A): 63; IDM [max] (A): 253; Qr [typ] (nC): 272; VDS [max] (V): 100; VGSth [typ] (V): 1.58; DatasheetVersion: Rev. 01; PackageVersion: 05-03-14, 03/2005; PackageReference: SOT78A; PackageDescription: 3-Pin Flange Mount, Vertical Straight Lead, Body 10 x 4.3 mm, Pitch 2.54 mm; Supplier 1: Digi-Key; Supplier Part Number 1: 568-5227-5-ND; Supplier 2: Mouser; Supplier Part Number 2: 771-BUK9520100B127; Packing: Rail; Mounting Technology: Through Hole; Code_JEITA: SC-46; Code_JEDEC: 3-lead TO-220AB; ComponentLink1Description: Manufacturer URL; ComponentLink1URL: http://www.nxp.com/; ComponentLink2Description: Datasheet; ComponentLink2URL: http://www.nxp.com/documents/data_sheet/BUK9520-100B.pdf; ComponentLink3Description: Package Specification; ComponentLink3URL: http://www.nxp.com/documents/outline_drawing/sot078a_po.pdf
footprint NXP-SOT78A (FM, 3-Leads, Body 10.3x4.5mm, Pitch 2.54mm)
pins: 1 G "gate", 2 D "drain", 3 S "source"

## BUK9524-55A,127
designator Q?
N-Channel TrenchMOS Logic Level FET, 55 V, 46 A, 3-Pin SOT78A, Rail; Manufacturer: NXP Semiconductors; PartNumber: BUK9524-55A,127; Automotive Qualified: Y; Channel Type: N; ID [max] (A): 46; IDM [max] (A): 188; Qr [typ] (nC): 85; VDS [max] (V): 55; VGSth [typ] (V): 1.5; DatasheetVersion: Rev. 02; PackageVersion: 05-03-14, 03/2005; PackageReference: SOT78A; PackageDescription: 3-Pin Flange Mount, Vertical Straight Lead, Body 10 x 4.3 mm, Pitch 2.54 mm; Supplier 1: Digi-Key; Supplier Part Number 1: BUK9524-55A,127-ND; Supplier 2: Mouser; Supplier Part Number 2: 771-BUK9524-55A127; Packing: Rail; Mounting Technology: Through Hole; Code_JEITA: SC-46; Code_JEDEC: 3-lead TO-220AB; ComponentLink1Description: Manufacturer URL; ComponentLink1URL: http://www.nxp.com/; ComponentLink2Description: Datasheet; ComponentLink2URL: http://www.nxp.com/documents/data_sheet/BUK9524-55A.pdf; ComponentLink3Description: Package Specification; ComponentLink3URL: http://www.nxp.com/documents/outline_drawing/sot078a_po.pdf
footprint NXP-SOT78A (FM, 3-Leads, Body 10.3x4.5mm, Pitch 2.54mm)
pins: 1 G "gate", 2 D "drain", 3 S "source"

## BUK9529-100B,127
designator Q?
N-Channel TrenchMOS Logic Level FET, 100 V, 46 A, 3-Pin SOT78A, Rail; Manufacturer: NXP Semiconductors; PartNumber: BUK9529-100B,127; Automotive Qualified: Y; Channel Type: N; ID [max] (A): 46; IDM [max] (A): 186; Qr [typ] (nC): 196; VDS [max] (V): 100; VGSth [typ] (V): 1.5; DatasheetVersion: Rev. 02; PackageVersion: 05-03-14, 03/2005; PackageReference: SOT78A; PackageDescription: 3-Pin Flange Mount, Vertical Straight Lead, Body 10 x 4.3 mm, Pitch 2.54 mm; Supplier 1: Digi-Key; Supplier Part Number 1: 568-5731-5-ND; Supplier 2: Mouser; Supplier Part Number 2: 771-BUK9529-100B127; Packing: Rail; Mounting Technology: Through Hole; Code_JEITA: SC-46; Code_JEDEC: 3-lead TO-220AB; ComponentLink1Description: Manufacturer URL; ComponentLink1URL: http://www.nxp.com/; ComponentLink2Description: Datasheet; ComponentLink2URL: http://www.nxp.com/documents/data_sheet/BUK9529-100B.pdf; ComponentLink3Description: Package Specification; ComponentLink3URL: http://www.nxp.com/documents/outline_drawing/sot078a_po.pdf
footprint NXP-SOT78A (FM, 3-Leads, Body 10.3x4.5mm, Pitch 2.54mm)
pins: 1 G "gate", 2 D "drain", 3 S "source"

## BUK9535-55A,127
designator Q?
N-Channel TrenchMOS Logic Level FET, 55 V, 34 A, 3-Pin SOT78A, Rail; Manufacturer: NXP Semiconductors; PartNumber: BUK9535-55A,127; Automotive Qualified: Y; Channel Type: N; ID [max] (A): 34; IDM [max] (A): 133; Qr [typ] (nC): 70; VDS [max] (V): 55; VGSth [typ] (V): 1.5; DatasheetVersion: Rev. 02; PackageVersion: 05-03-14, 03/2005; PackageReference: SOT78A; PackageDescription: 3-Pin Flange Mount, Vertical Straight Lead, Body 10 x 4.3 mm, Pitch 2.54 mm; Supplier 1: Digi-Key; Supplier Part Number 1: 568-9730-5-ND; Supplier 2: Newark; Supplier Part Number 2: 70R3579; Supplier 3: Mouser; Supplier Part Number 3: 771-BUK9535-55A127; Packing: Rail; Mounting Technology: Through Hole; Code_JEITA: SC-46; Code_JEDEC: 3-lead TO-220AB; ComponentLink1Description: Manufacturer URL; ComponentLink1URL: http://www.nxp.com/; ComponentLink2Description: Datasheet; ComponentLink2URL: http://www.nxp.com/documents/data_sheet/BUK9535-55A.pdf; ComponentLink3Description: Package Specification; ComponentLink3URL: http://www.nxp.com/documents/outline_drawing/sot078a_po.pdf
footprint NXP-SOT78A (FM, 3-Leads, Body 10.3x4.5mm, Pitch 2.54mm)
pins: 1 G "gate", 2 D "drain", 3 S "source"

## BUK9535-100A,127
designator Q?
N-Channel TrenchMOS Logic Level FET, 100 V, 41 A, 3-Pin SOT78A, Rail; Manufacturer: NXP Semiconductors; PartNumber: BUK9535-100A,127; Automotive Qualified: Y; Channel Type: N; ID [max] (A): 41; IDM [max] (A): 165; Qr [typ] (nC): 230; VDS [max] (V): 100; VGSth [typ] (V): 1.5; DatasheetVersion: Rev. 2; PackageVersion: 05-03-14, 03/2005; PackageReference: SOT78A; PackageDescription: 3-Pin Flange Mount, Vertical Straight Lead, Body 10 x 4.3 mm, Pitch 2.54 mm; Supplier 1: Digi-Key; Supplier Part Number 1: BUK9535-100A,127-ND; Supplier 2: Mouser; Supplier Part Number 2: 771-BUK9535-100A127; Packing: Rail; Mounting Technology: Through Hole; Code_JEITA: SC-46; Code_JEDEC: 3-lead TO-220AB; ComponentLink1Description: Manufacturer URL; ComponentLink1URL: http://www.nxp.com/; ComponentLink2Description: Datasheet; ComponentLink2URL: http://www.nxp.com/documents/data_sheet/BUK9535-100A.pdf; ComponentLink3Description: Package Specification; ComponentLink3URL: http://www.nxp.com/documents/outline_drawing/sot078a_po.pdf
footprint NXP-SOT78A (FM, 3-Leads, Body 10.3x4.5mm, Pitch 2.54mm)
pins: 1 G "gate", 2 D "drain", 3 S "source"

## BUK9575-55A,127
designator Q?
N-Channel TrenchMOS Logic Level FET, 55 V, 20 A, 3-Pin SOT78A, Rail; Manufacturer: NXP Semiconductors; PartNumber: BUK9575-55A,127; Automotive Qualified: Y; Channel Type: N; ID [max] (A): 20; IDM [max] (A): 81; Qr [typ] (nC): 60; VDS [max] (V): 55; VGSth [typ] (V): 1.5; DatasheetVersion: Rev. 2; PackageVersion: 05-03-14, 03/2005; PackageReference: SOT78A; PackageDescription: 3-Pin Flange Mount, Vertical Straight Lead, Body 10 x 4.3 mm, Pitch 2.54 mm; Supplier 1: Digi-Key; Supplier Part Number 1: BUK9575-55A,127-ND; Supplier 2: Newark; Supplier Part Number 2: 70R3583; Supplier 3: Mouser; Supplier Part Number 3: 771-BUK9575-55A127; Packing: Rail; Mounting Technology: Through Hole; Code_JEITA: SC-46; Code_JEDEC: 3-lead TO-220AB; ComponentLink1Description: Manufacturer URL; ComponentLink1URL: http://www.nxp.com/; ComponentLink2Description: Datasheet; ComponentLink2URL: http://www.nxp.com/documents/data_sheet/BUK9575-55A.pdf; ComponentLink3Description: Package Specification; ComponentLink3URL: http://www.nxp.com/documents/outline_drawing/sot078a_po.pdf
footprint NXP-SOT78A (FM, 3-Leads, Body 10.3x4.5mm, Pitch 2.54mm)
pins: 1 G "gate", 2 D "drain", 3 S "source"

## BUK9575-100A,127
designator Q?
N-Channel TrenchMOS Logic Level FET, 100 V, 23 A, 3-Pin SOT78A, Rail; Manufacturer: NXP Semiconductors; PartNumber: BUK9575-100A,127; Automotive Qualified: Y; Channel Type: N; ID [max] (A): 23; IDM [max] (A): 91; Qr [typ] (nC): 220; VDS [max] (V): 100; VGSth [typ] (V): 1.5; DatasheetVersion: Rev. 3; PackageVersion: 05-03-14, 03/2005; PackageReference: SOT78A; PackageDescription: 3-Pin Flange Mount, Vertical Straight Lead, Body 10 x 4.3 mm, Pitch 2.54 mm; Supplier 1: Digi-Key; Supplier Part Number 1: 568-9738-5-ND; Supplier 2: Mouser; Supplier Part Number 2: 771-BUK9575-100A127; Packing: Rail; Mounting Technology: Through Hole; Code_JEITA: SC-46; Code_JEDEC: 3-lead TO-220AB; ComponentLink1Description: Manufacturer URL; ComponentLink1URL: http://www.nxp.com/; ComponentLink2Description: Datasheet; ComponentLink2URL: http://www.nxp.com/documents/data_sheet/BUK9575-100A.pdf; ComponentLink3Description: Package Specification; ComponentLink3URL: http://www.nxp.com/documents/outline_drawing/sot078a_po.pdf
footprint NXP-SOT78A (FM, 3-Leads, Body 10.3x4.5mm, Pitch 2.54mm)
pins: 1 G "gate", 2 D "drain", 3 S "source"

## BUK9604-40A,118
designator Q?
N-Channel TrenchMOS Logic Level FET, 40 V, 3-Pin SOT404, Tape and Reel; Manufacturer: NXP Semiconductors; PartNumber: BUK9604-40A,118; Automotive Qualified: Y; Channel Type: N; IDM [max] (A): 794; Packing: Tape & Reel; Qr [typ] (nC): 531; VDS [max] (V): 40; VGSth [typ] (V): 1.5; DatasheetVersion: Rev. 2; PackageVersion: 13-02-25, 02/2013; PackageReference: SOT404; PackageDescription: 3-Pin Plastic Single-ended Surface Mounted Package, Body 10 x 9.6 mm, Pitch 2.54 mm; Supplier 1: Digi-Key; Supplier Part Number 1: BUK9604-40A,118-ND; Supplier 2: Mouser; Supplier Part Number 2: 771-BUK9604-40A118; Mounting Technology: Surface Mount; ComponentLink1Description: Manufacturer URL; ComponentLink1URL: http://www.nxp.com/; ComponentLink2Description: Datasheet; ComponentLink2URL: http://www.nxp.com/documents/data_sheet/BUK9604-40A.pdf; ComponentLink3Description: Package Specification; ComponentLink3URL: http://www.nxp.com/documents/outline_drawing/sot404_po.pdf
footprint NXP-SOT404_N (DPAK, 3-Leads, Body 10.3x9.8mm, Pitch 2.54mm, IPC Medium Density)
footprint NXP-SOT404_L (DPAK, 3-Leads, Body 10.3x9.8mm, Pitch 2.54mm, IPC High Density)
footprint NXP-SOT404_M (DPAK, 3-Leads, Body 10.3x9.8mm, Pitch 2.54mm, IPC Low Density)
pins: 1 G "gate", 3 S "source", 4 D "mounting base; connected to drain"

## BUK9605-30A,118
designator Q?
N-Channel TrenchMOS Logic Level FET, 30 V, 75 A, 3-Pin SOT404, Tape and Reel; Manufacturer: NXP Semiconductors; PartNumber: BUK9605-30A,118; Automotive Qualified: Y; Channel Type: N; ID [max] (A): 75; IDM [max] (A): 400; Packing: Tape & Reel; Qr [typ] (nC): 1000; VDS [max] (V): 30; VGSth [typ] (V): 1.5; DatasheetVersion: Rev. 03; PackageVersion: 13-02-25, 02/2013; PackageReference: SOT404; PackageDescription: 3-Pin Plastic Single-ended Surface Mounted Package, Body 10 x 9.6 mm, Pitch 2.54 mm; Supplier 1: Digi-Key; Supplier Part Number 1: 568-9673-1-ND; Supplier 2: Digi-Key; Supplier Part Number 2: 568-9673-6-ND; Supplier 3: Digi-Key; Supplier Part Number 3: 568-9673-2-ND; Supplier 4: Mouser; Supplier Part Number 4: 771-BUK9605-30A118; Mounting Technology: Surface Mount; ComponentLink1Description: Manufacturer URL; ComponentLink1URL: http://www.nxp.com/; ComponentLink2Description: Datasheet; ComponentLink2URL: http://www.nxp.com/documents/data_sheet/BUK9605-30A.pdf; ComponentLink3Description: Package Specification; ComponentLink3URL: http://www.nxp.com/documents/outline_drawing/sot404_po.pdf
footprint NXP-SOT404_N (DPAK, 3-Leads, Body 10.3x9.8mm, Pitch 2.54mm, IPC Medium Density)
footprint NXP-SOT404_L (DPAK, 3-Leads, Body 10.3x9.8mm, Pitch 2.54mm, IPC High Density)
footprint NXP-SOT404_M (DPAK, 3-Leads, Body 10.3x9.8mm, Pitch 2.54mm, IPC Low Density)
pins: 1 G "gate", 3 S "source", 4 D "mounting base; connected to drain"